# EAGLE library part MKDSP25/3-15.00-F (library con-phoenix-mkds_25)
MKDSP 25/ 3-15,00-F 125 A, Nom. voltage: 1000 V Order No.: 1932504
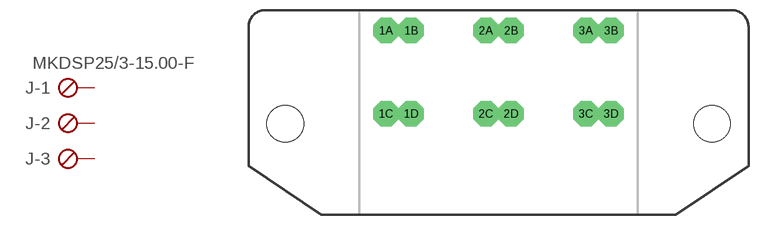
[diagram p0: symbol with the pads of MKDSP25/3-15.00-F; footprint MKDSP25/3-15.00-F]

Designator prefix J; gates -1=KLVV -2=KL4 -3=KL4

## MKDSP25/3-15.00-F  [MKDSP25/3-15.00-F]
1A  -1:KL  pas
1B  -1:KL1  pas
1C  -1:KL2  pas
1D  -1:KL3  pas
2A  -2:KL  pas
2B  -2:KL1  pas
2C  -2:KL2  pas
2D  -2:KL3  pas
3A  -3:KL  pas
3B  -3:KL1  pas
3C  -3:KL2  pas
3D  -3:KL3  pas

## Footprint MKDSP25/3-15.00-F (pad centres in mm)
drill 1.778 pad 3.81 octagon: 1A -16.9,12.5; 1B -13.1,12.5; 1C -16.9,0; 1D -13.1,0; 2A -1.9,12.5; 2B 1.9,12.5; 2C -1.9,0; 2D 1.9,0; 3A 13.1,12.5; 3B 16.9,12.5; 3C 13.1,0; 3D 16.9,0
hole 5.5 at -32,-1.5
hole 5.5 at 32,-1.5